# Altium footprint library PA_control_board.PcbLib: 31 footprints (part 2 of 2)
Each footprint in its own frame and in the unit in brackets; x right, y up, seen from the top. Pads: shape width x height; smd on the part's side, far side on the other; paste and mask are expansions set on the pad; w line width, h text height; cw(c..) or ccw(c..) is an arc to the next point about the centre after c.
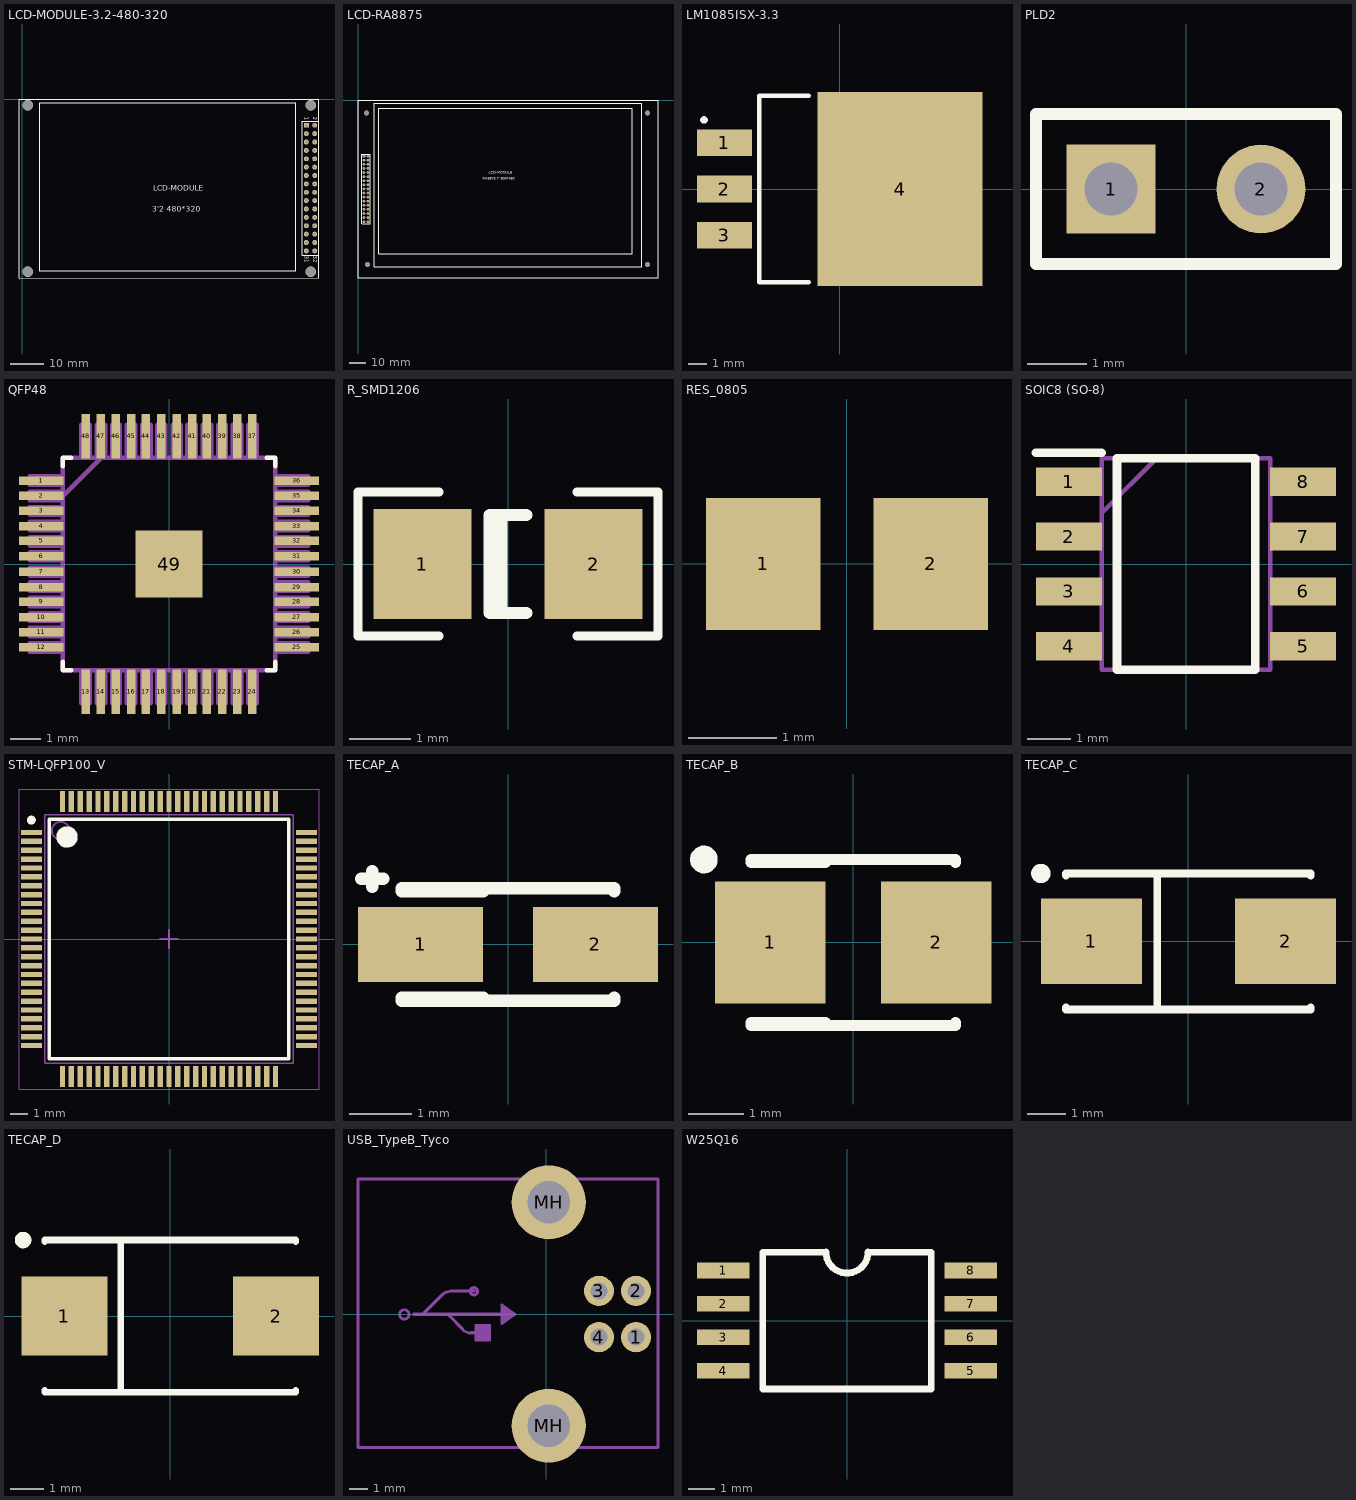
[diagram p1: the footprints below, top view; thin cyan lines are the x and y axes]

## LCD-MODULE-3.2-480-320 [mm]
pads (32):
  rect 1.5x1.5 hole 0.9: 1(86.16,-7.82)
  round 1.5 hole 0.9: 2(88.7,-7.82) 3(86.16,-10.36) 4(88.7,-10.36) 5(86.16,-12.9) 6(88.7,-12.9) 7(86.16,-15.44) 8(88.7,-15.44) 9(86.16,-17.98) 10(88.7,-17.98) 11(86.16,-20.52) 12(88.7,-20.52) 13(86.16,-23.06) 14(88.7,-23.06) 15(86.16,-25.6) 16(88.7,-25.6) 17(86.16,-28.14) 18(88.7,-28.14) 19(86.16,-30.68) 20(88.7,-30.68) 21(86.16,-33.22) 22(88.7,-33.22) 23(86.16,-35.76) 24(88.7,-35.76) 25(86.16,-38.3) 26(88.7,-38.3) 27(86.16,-40.84) 28(88.7,-40.84) 29(86.16,-43.38) 30(88.7,-43.38) 31(86.16,-45.92) 32(88.7,-45.92)
via 1.6,-1.778 diameter 3.2 hole 3
via 1.6,-52.197 diameter 3.2 hole 3
via 87.5,-52.197 diameter 3.2 hole 3
via 87.5,-1.778 diameter 3.2 hole 3
Top Overlay:
  lines w0.2: 84.89,-47.19 89.97,-47.19 89.97,-6.55 84.89,-6.55 84.89,-47.19
  lines w0.254: -1,-54.3 90,-54 90,0 -1,0 -1,-54.229 ; 5.08,-51.9 83,-52 83,-1 5.08,-1 5.08,-51.9
  text "3'2 480*320" at 39.37,-34.036 h1.67
  text "LCD-MODULE" at 39.786,-27.698 h1.67
  text "2" at 88.192,-5.28 h1.27
  text "32" at 88.192,-47.444 h1.27
  text "31" at 85.652,-47.444 h1.27
  text "1" at 85.652,-5.28 h1.27

## LCD-RA8875 [mm]
pads (34):
  rect 1.7x1.7 hole 1.1: 1(3.683,-34.798)
  round 1.7 hole 1.1: 2(6.223,-34.798) 3(3.683,-37.338) 4(6.223,-37.338) 5(3.683,-39.878) 6(6.223,-39.878) 7(3.683,-42.418) 8(6.223,-42.418) 9(3.683,-44.958) 10(6.223,-44.958) 11(3.683,-47.498) 12(6.223,-47.498) 13(3.683,-50.038) 14(6.223,-50.038) 15(3.683,-52.578) 16(6.223,-52.578) 17(3.683,-55.118) 18(6.223,-55.118) 19(3.683,-57.658) 20(6.223,-57.658) 21(3.683,-60.198) 22(6.223,-60.198) 23(3.683,-62.738) 24(6.223,-62.738) 25(3.683,-65.278) 26(6.223,-65.278) 27(3.683,-67.818) 28(6.223,-67.818) 29(3.683,-70.358) 30(6.223,-70.358) 31(3.683,-72.898) 32(6.223,-72.898) 33(3.683,-75.438) 34(6.223,-75.438)
via 179.46,-8 diameter 3.2 hole 3
via 179.46,-102.07 diameter 3.2 hole 3
via 5.84,-102.1 diameter 3.2 hole 3
via 5.33,-8 diameter 3.2 hole 3
Top Overlay:
  lines w0.254: 2.409,-76.835 2.409,-33.526 7.495,-33.526 7.495,-76.833 2.54,-76.833 ; 0,-110.36 186.06,-110.36 186.06,0 0,0 0,-110.36 ; 10,-103.36 10,-2 176.06,-2 176.06,-103.36 10,-103.36 ; 13,-95.36 170.06,-95.36 170.06,-5 13,-5 13,-95.36
  text "LCD-MODULE" at 81.153,-45.72 h1.67
  text "RA8875 7' 800*480" at 77.216,-49.403 h1.67

## LM1085ISX-3.3 [mm]
pads (4):
  rect 3x1.45 smd: 1(-6.3,2.54) 2(-6.3,0) 3(-6.3,-2.54)
  rect 9x10.6 smd: 4(3.3,0)
Top Overlay:
  region: -7.223,3.776 -7.226,3.81 -7.235,3.843 -7.249,3.874 -7.269,3.902 -7.293,3.926 -7.321,3.946 -7.352,3.96 -7.385,3.969 -7.419,3.972 -7.453,3.969 -7.485,3.96 -7.517,3.946 -7.544,3.926 -7.569,3.902 -7.588,3.874 -7.603,3.843 -7.611,3.81 -7.614,3.776 -7.611,3.742 -7.603,3.709 -7.588,3.678 -7.569,3.651 -7.544,3.626 -7.517,3.607 -7.485,3.592 -7.453,3.584 -7.419,3.581 -7.385,3.584 -7.352,3.592 -7.321,3.607 -7.293,3.626 -7.269,3.651 -7.249,3.678 -7.235,3.709 -7.226,3.742
  lines w0.254: -1.7,-5.1 -4.401,-5.1 -4.401,5.1 -1.7,5.1

## PLD2 [mm]
pads (2):
  rect 1.5x1.5 hole 0.9: 1(-1.27,0)
  round 1.5 hole 0.9: 2(1.27,0)
Top Overlay:
  lines w0.2: -2.54,-1.27 -2.54,1.27 2.54,1.27 2.54,-1.27 -2.54,-1.27
3D body "User Library-PLD-2.step": height 8.5, standoff -3, extent -2.5,-1.265 2.5,1.275

## QFP48 [mil]
pads (49):
  rect 58x11 smd: 1(-166,108) 2(-166,89) 3(-166,69) 4(-166,49) 5(-166,30) 6(-166,10) 7(-166,-10) 8(-166,-30) 9(-166,-49) 10(-166,-69) 11(-166,-89) 12(-166,-108) 25(166,-108) 26(166,-89) 27(166,-69) 28(166,-49) 29(166,-30) 30(166,-10) 31(166,10) 32(166,30) 33(166,49) 34(166,69) 35(166,89) 36(166,108)
  rect 11x58 smd: 13(-108,-166) 14(-89,-166) 15(-69,-166) 16(-49,-166) 17(-30,-166) 18(-10,-166) 19(10,-166) 20(30,-166) 21(49,-166) 22(69,-166) 23(89,-166) 24(108,-166) 37(108,166) 38(89,166) 39(69,166) 40(49,166) 41(30,166) 42(10,166) 43(-10,166) 44(-30,166) 45(-49,166) 46(-69,166) 47(-89,166) 48(-108,166)
  rect 87x87 smd: 49(0,0)
Top Overlay:
  lines w6: -138,-127 -138,-138 -127,-138 ; -138,127 -138,138 -127,138 ; 127,-138 138,-138 138,-127 ; 127,138 138,138 138,127
Mechanical 1:
  drawing of 199 lines, arcs and shapes, not listed
3D body "User Library-QFP48.STEP": height 62.83, standoff 2.36, extent -177.28,-177.17 177.28,177.4

## R_SMD1206 [mm]
pads (2):
  rect 1.6x1.8 smd: 1(-1.4,0) 2(1.4,0)
Top Overlay:
  lines w0.15: -1.125,-1.175 -2.45,-1.175 -2.45,1.175 -1.125,1.175 ; 1.125,-1.175 2.45,-1.175 2.45,1.175 1.125,1.175
  lines w0.2: -0.11,-0.8 -0.11,0.8 ; 0.3,-0.8 -0.3,-0.8 -0.3,0.8 0.3,0.8
3D body "User Library-User Library-1206_Res1.step": height 1.25, standoff 0, extent -2.245,-0.8 2.295,0.8

## RES_0805 [mm]
pads (2):
  rect 1.3x1.5 smd: 1(-0.95,0) 2(0.95,0)

## SOIC8 (SO-8) [mm]
pads (8):
  rect 1.525x0.65 smd: 1(-2.712,1.905) 2(-2.712,0.635) 3(-2.712,-0.635) 4(-2.712,-1.905) 5(2.712,-1.905) 6(2.712,-0.635) 7(2.712,0.635) 8(2.712,1.905)
Top Overlay:
  lines w0.2: -3.475,2.58 -1.95,2.58 ; -1.6,-2.45 1.6,-2.45 1.6,2.45 -1.6,2.45 -1.6,-2.45
Mechanical 15:
  lines w0.1: -1.95,1.18 -0.68,2.45 ; -1.95,-2.45 1.95,-2.45 1.95,2.45 -1.95,2.45 -1.95,-2.45
3D body "SOIC08 narrow.stp": height 2, standoff 0, extent -3.082,-2.5 3.082,2.5

## STM-LQFP100_V [mm] "Thin QFP, 100-Leads, Body 14x14mm, Pitch 0.5mm, ST Recommended"
height 1.6
pads (100):
  rect 1.2x0.3 smd: 1(-7.75,6) 2(-7.75,5.5) 3(-7.75,5) 4(-7.75,4.5) 5(-7.75,4) 6(-7.75,3.5) 7(-7.75,3) 8(-7.75,2.5) 9(-7.75,2) 10(-7.75,1.5) 11(-7.75,1) 12(-7.75,0.5) 13(-7.75,0) 14(-7.75,-0.5) 15(-7.75,-1) 16(-7.75,-1.5) 17(-7.75,-2) 18(-7.75,-2.5) 19(-7.75,-3) 20(-7.75,-3.5) 21(-7.75,-4) 22(-7.75,-4.5) 23(-7.75,-5) 24(-7.75,-5.5) 25(-7.75,-6) 51(7.75,-6) 52(7.75,-5.5) 53(7.75,-5) 54(7.75,-4.5) 55(7.75,-4) 56(7.75,-3.5) 57(7.75,-3) 58(7.75,-2.5) 59(7.75,-2) 60(7.75,-1.5) 61(7.75,-1) 62(7.75,-0.5) 63(7.75,0) 64(7.75,0.5) 65(7.75,1) 66(7.75,1.5) 67(7.75,2) 68(7.75,2.5) 69(7.75,3) 70(7.75,3.5) 71(7.75,4) 72(7.75,4.5) 73(7.75,5) 74(7.75,5.5) 75(7.75,6)
  rect 0.3x1.2 smd: 26(-6,-7.75) 27(-5.5,-7.75) 28(-5,-7.75) 29(-4.5,-7.75) 30(-4,-7.75) 31(-3.5,-7.75) 32(-3,-7.75) 33(-2.5,-7.75) 34(-2,-7.75) 35(-1.5,-7.75) 36(-1,-7.75) 37(-0.5,-7.75) 38(0,-7.75) 39(0.5,-7.75) 40(1,-7.75) 41(1.5,-7.75) 42(2,-7.75) 43(2.5,-7.75) 44(3,-7.75) 45(3.5,-7.75) 46(4,-7.75) 47(4.5,-7.75) 48(5,-7.75) 49(5.5,-7.75) 50(6,-7.75) 76(6,7.75) 77(5.5,7.75) 78(5,7.75) 79(4.5,7.75) 80(4,7.75) 81(3.5,7.75) 82(3,7.75) 83(2.5,7.75) 84(2,7.75) 85(1.5,7.75) 86(1,7.75) 87(0.5,7.75) 88(0,7.75) 89(-0.5,7.75) 90(-1,7.75) 91(-1.5,7.75) 92(-2,7.75) 93(-2.5,7.75) 94(-3,7.75) 95(-3.5,7.75) 96(-4,7.75) 97(-4.5,7.75) 98(-5,7.75) 99(-5.5,7.75) 100(-6,7.75)
Top Overlay:
  circle w0.25: c-7.75,6.7 r0.125
  circle w0.6: c-5.75,5.75 r0.3
  lines w0.2: -6.75,-6.75 -6.75,6.75 6.75,6.75 6.75,-6.75 -6.75,-6.75
Mechanical 13:
  circle w0.1: c-6.1,6.1 r0.5
  lines w0.1: -7,-7 -7,7 7,7 7,-7 -7,-7
Mechanical 15:
  lines w0.05: -8.45,-8.45 -8.45,8.45 8.45,8.45 8.45,-8.45 -8.45,-8.45
  lines w0.1: -0.5,0 0.5,0 ; 0,-0.5 0,0.5
3D body: height 1.6, standoff 0.05, extent -7,-7 7,7

## TECAP_A [mm]
pads (2):
  rect 2x1.2 smd: 1(-1.4,0) 2(1.4,0)
Top Overlay:
  lines w0.2: -2.35,1.05 -2,1.05 ; -2.175,0.925 -2.175,1.175 ; -1.7,-0.9 1.7,-0.9 1.7,-0.85 ; -1.7,-0.85 -0.4,-0.85 ; -1.7,0.85 -0.4,0.85 ; -1.7,0.9 1.7,0.9 1.7,0.85
3D body "User Library-CAP_TANT_3216-18_A_case-1.step": height 1.7, standoff 0, extent -1.7,-0.9 1.7,0.9

## TECAP_B [mm]
pads (2):
  rect 2x2.2 smd: 1(-1.5,0) 2(1.5,0)
Top Overlay:
  circle w0.25: c-2.7,1.5 r0.125
  lines w0.2: -1.85,-1.5 1.85,-1.5 1.85,-1.45 ; -1.85,-1.45 -0.5,-1.45 ; -1.85,1.45 -0.5,1.45 ; -1.85,1.5 1.85,1.5 1.85,1.45
3D body "User Library-Tantalum Capacitor Case B.STEP": height 2.09, standoff -0.01, extent -1.811,-1.45 1.879,1.37

## TECAP_C [mm]
pads (2):
  rect 2.6x2.2 smd: 1(-2.5,0) 2(2.5,0)
Top Overlay:
  circle w0.25: c-3.8,1.75 r0.125
  lines w0.2: -3.15,-1.7 -3.15,-1.75 3.15,-1.75 3.15,-1.7 ; -3.15,1.7 -3.15,1.75 3.15,1.75 3.15,1.7 ; -0.8,-1.75 -0.8,1.75
3D body "User Library-Tantalum Capacitor Case C.STEP": height 2.72, standoff 0.03, extent -3.068,-1.6 3.118,1.605

## TECAP_D [mm]
pads (2):
  rect 2.6x2.4 smd: 1(-3.2,0) 2(3.2,0)
Top Overlay:
  circle w0.25: c-4.45,2.3 r0.125
  lines w0.2: -3.8,-2.25 -3.8,-2.3 3.8,-2.3 3.8,-2.25 ; -3.8,2.25 -3.8,2.3 3.8,2.3 3.8,2.25 ; -1.5,-2.3 -1.5,2.3
3D body "CAPM-TANTD-YL.stp": height 3.1, standoff 0, extent -3.75,-2.25 3.75,2.25

## USB_TypeB_Tyco [mm]
height 11.1
pads (6):
  round 1.626 hole 0.914: 1(4.83,-1.25) 2(4.83,1.25) 3(2.83,1.25) 4(2.83,-1.25)
  round 4 hole 2.3: MH(0.12,-6.02) MH(0.12,6.02)
Mechanical 29:
  circle w0.15: c-3.91,1.225 r0.2
  circle w0.15: c-7.66,-0.025 r0.254
  region: -1.71,-0.025 -2.41,-0.525 -2.41,0.475
  region: -3.06,-1.4 -3.81,-1.4 -3.81,-0.65 -3.06,-0.65
  lines w0.15: -10.16,7.2 -10.16,-7.2 ; -7.16,-0.025 -2.41,-0.025 ; -7.16,0 -2.41,0 ; -6.613,0.037 -5.613,1.037 cw(c-5.16,0.585) -5.16,1.225 -3.91,1.225 ; -6.613,0.062 -5.613,1.062 ; -5.263,-0.087 -4.513,-0.837 ccw(c-4.06,-0.385) -4.06,-1.025 -3.81,-1.025 ; -5.263,-0.062 -4.513,-0.812 ; -5.16,1.25 -3.91,1.25 ; -4.06,-1 -3.81,-1 ; -2.16,-7.2 -10.16,-7.2 ; 2.34,-7.2 5.74,-7.2 ; -10.16,-7.2 6.015,-7.2 6.015,7.275 -10.16,7.275 -10.16,-7.2 ; -3.81,-1.4 -3.06,-1.4 -3.06,-0.65 -3.81,-0.65 -3.81,-1.4 ; -3.81,-1.375 -3.81,-0.625 -3.06,-0.625 -3.06,-1.375 -3.81,-1.375 ; -2.41,-0.525 -1.71,-0.025 -2.41,0.475 -2.41,-0.525 ; -2.41,-0.5 -1.71,0 -2.41,0.5 -2.41,-0.5
  text ".Designator" at -7.66,3.7 h1
3D body "User Library-JST_UBB-4R-D14T-4D.step": height 11.6, standoff -3.12, extent -10.16,-7.475 6.14,7.425

## W25Q16 [mm]
pads (8):
  rect 2x0.6 smd: 1(-4.7,1.905) 2(-4.7,0.635) 3(-4.7,-0.635) 4(-4.7,-1.905) 5(4.7,-1.905) 6(4.7,-0.635) 7(4.7,0.635) 8(4.7,1.905)
Top Overlay:
  lines w0.254: -0.8,2.6 -3.2,2.6 -3.2,-2.6 3.2,-2.6 3.2,2.6 0.8,2.6 ; -0.8,2.601 ccw(c0,2.601) 0.8,2.601